# EAGLE library part SMD-LED-ADDRESSABLE-RGB(6P-5X5MM) (library Seeed-OPL-Diode)
304090025
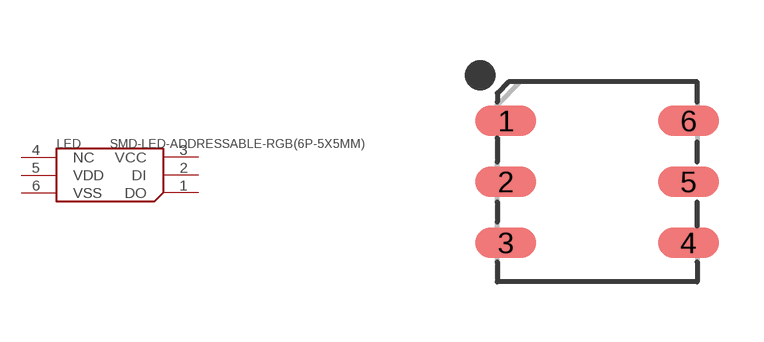
[diagram p1: symbol with the pads of LED6-SMD-5050; footprint LED6-SMD-5050]

Designator prefix LED

## SMD-LED-ADDRESSABLE-RGB(6P-5X5MM) (MPN: WS2812; VALUE: RGB 5050)  [LED6-SMD-5050]
1  DO
2  DI
3  VCC
4  NC
5  VDD
6  VSS

## Footprint LED6-SMD-5050 (pad centres in mm)
smd 1.524 x 0.762: 1 -2.286,1.524; 2 -2.286,0; 3 -2.286,-1.524; 4 2.286,-1.524; 5 2.286,0; 6 2.286,1.524